# EAGLE library part SRB-MX146 (library SHC)
SRB-MX146 Transmitter Module - Argent Data Systems
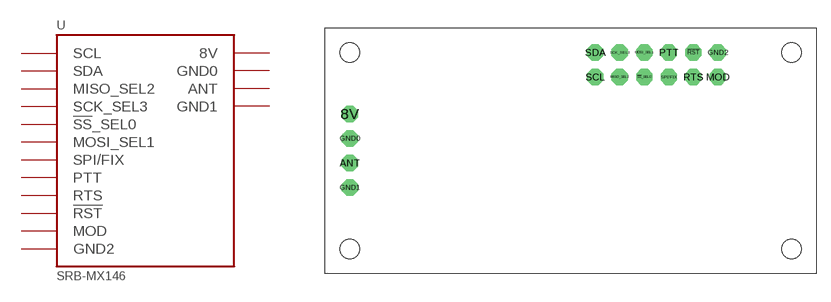
[diagram p45: symbol with the pads of SRB-MX146; footprint SRB-MX146]

Designator prefix -

## SRB-MX146  [SRB-MX146]
8V  8V
!RST!  !RST!
!SS!_SEL0  !SS!_SEL0
ANT  ANT
GND0  GND0
GND1  GND1
GND2  GND2
MISO_SEL2  MISO_SEL2
MOD  MOD
MOSI_SEL1  MOSI_SEL1
PTT  PTT
RTS  RTS
SCK_SEL3  SCK_SEL3
SCL  SCL
SDA  SDA
SPI/FIX  SPI/FIX

## Footprint SRB-MX146 (pad centres in mm)
drill 0.7 pad 1.676 octagon: 8V -22.86,3.81; !RST! 12.7,10.16; !SS!_SEL0 7.62,7.62; ANT -22.86,-1.27; GND0 -22.86,1.27; GND1 -22.86,-3.81; GND2 15.24,10.16; MISO_SEL2 5.08,7.62; MOD 15.24,7.62; MOSI_SEL1 7.62,10.16; PTT 10.16,10.16; RTS 12.7,7.62; SCK_SEL3 5.08,10.16; SCL 2.54,7.62; SDA 2.54,10.16; SPI/FIX 10.16,7.62
hole 2.032 at -22.86,10.16
hole 2.032 at 22.86,10.16
hole 2.032 at 22.86,-10.16
hole 2.032 at -22.86,-10.16